# Altium footprint library Capacitors SMD.PcbLib: 74 footprints (part 5 of 5)
Each footprint in its own frame and in the unit in brackets; x right, y up, seen from the top. Pads: shape width x height; smd on the part's side, far side on the other; paste and mask are expansions set on the pad; w line width, h text height; cw(c..) or ccw(c..) is an arc to the next point about the centre after c.
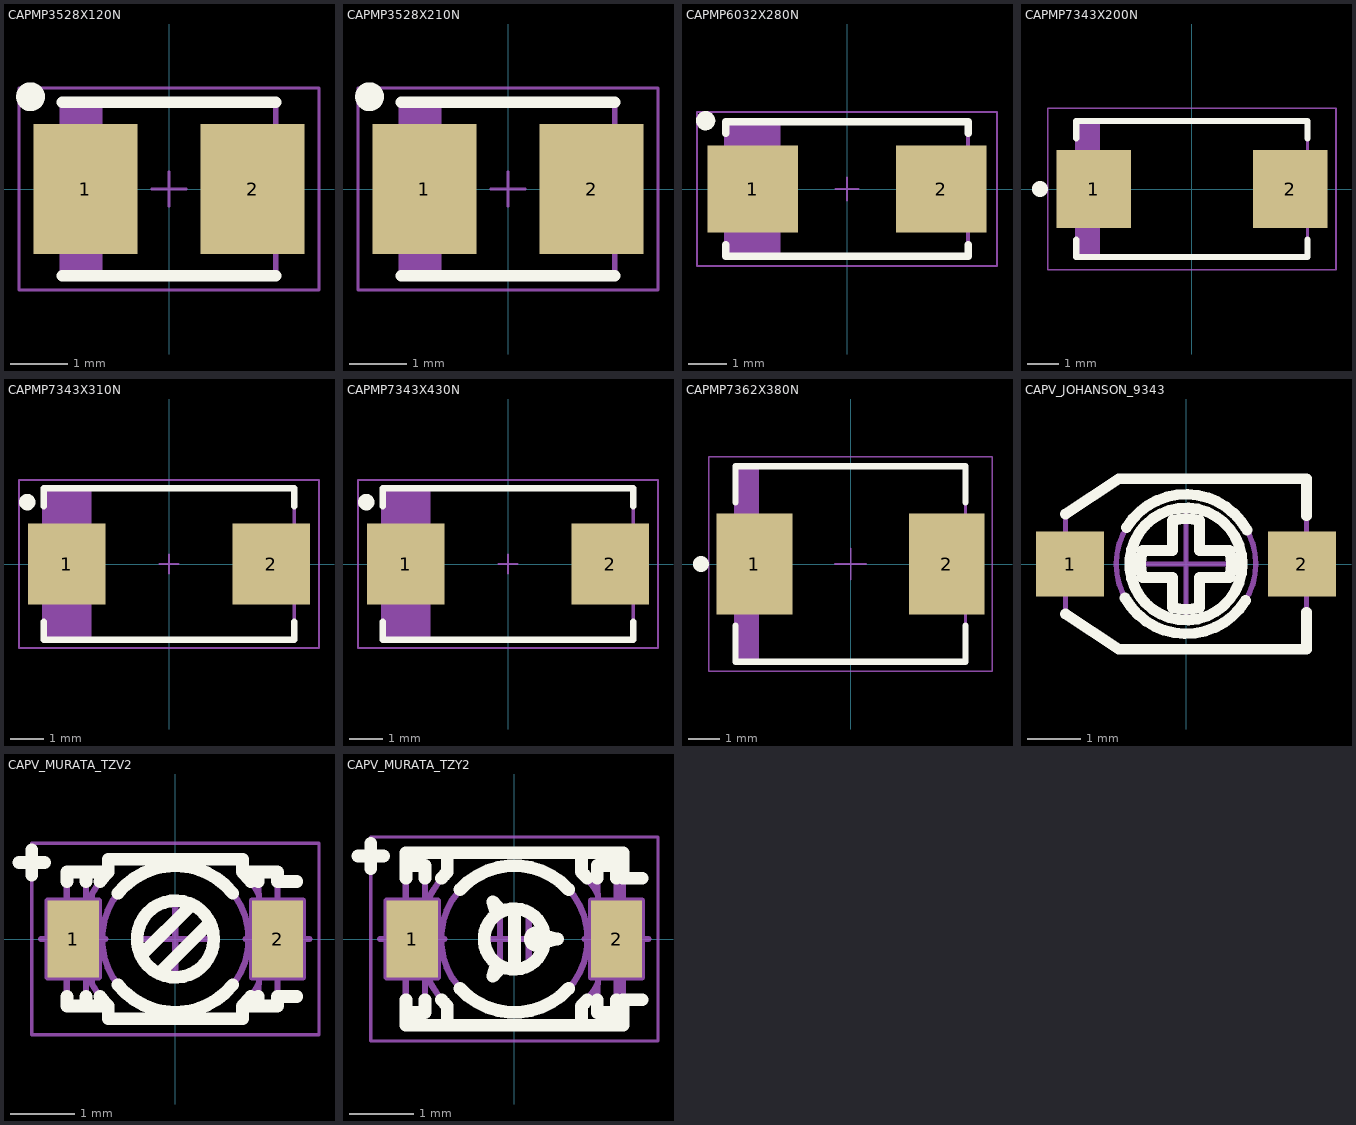
[diagram p4: the footprints below, top view; thin cyan lines are the x and y axes]

## CAPMP3528X120N [mm] "Capacitor, Polarized, Molded  Body 3.5x2.8mm, IPC Medium Density"
height 1.2
pads (2):
  rect 1.8x2.25 smd: 1(-1.45,0) 2(1.45,0)
Top Overlay:
  circle w0.25: c-2.4,1.6 r0.125
  lines w0.2: -1.85,-1.5 1.85,-1.5 ; -1.85,1.5 1.85,1.5
Mechanical 14:
  lines w0.1: -1.8,-1.5 -1.8,1.5 ; -1.725,-1.5 -1.725,1.5 ; -1.65,-1.5 -1.65,1.5 ; -1.575,-1.5 -1.575,1.5 ; -1.5,-1.5 -1.5,1.5 ; -1.425,-1.5 -1.425,1.5 ; -1.35,-1.5 -1.35,1.5 ; -1.275,-1.5 -1.275,1.5 ; -1.2,-1.5 -1.2,1.5 ; -1.85,-1.5 1.85,-1.5 1.85,1.5 -1.85,1.5 -1.85,-1.5
Mechanical 15:
  lines w0.05: -0.3,0 0.3,0 ; 0,-0.3 0,0.3 ; -2.6,-1.75 -2.6,1.75 2.6,1.75 2.6,-1.75 -2.6,-1.75
3D body "CAPMP3528X120N.stp": height 1.2, standoff 0, extent -1.85,-1.5 1.85,1.5

## CAPMP3528X210N [mm] "Capacitor, Polarized, Molded  Body 3.5x2.8mm, IPC Medium Density"
height 2.1
pads (2):
  rect 1.8x2.25 smd: 1(-1.45,0) 2(1.45,0)
Top Overlay:
  circle w0.25: c-2.4,1.6 r0.125
  lines w0.2: -1.85,-1.5 1.85,-1.5 ; -1.85,1.5 1.85,1.5
Mechanical 14:
  lines w0.1: -1.8,-1.5 -1.8,1.5 ; -1.725,-1.5 -1.725,1.5 ; -1.65,-1.5 -1.65,1.5 ; -1.575,-1.5 -1.575,1.5 ; -1.5,-1.5 -1.5,1.5 ; -1.425,-1.5 -1.425,1.5 ; -1.35,-1.5 -1.35,1.5 ; -1.275,-1.5 -1.275,1.5 ; -1.2,-1.5 -1.2,1.5 ; -1.85,-1.5 1.85,-1.5 1.85,1.5 -1.85,1.5 -1.85,-1.5
Mechanical 15:
  lines w0.05: -0.3,0 0.3,0 ; 0,-0.3 0,0.3 ; -2.6,-1.75 -2.6,1.75 2.6,1.75 2.6,-1.75 -2.6,-1.75
3D body "CAPMP3528X210N.stp": height 2.1, standoff 0, extent -1.85,-1.5 1.85,1.5

## CAPMP6032X280N [mm] "Capacitor, Polarized, Molded  Body 6.0x3.2mm, IPC Medium Density"
height 2.8
pads (2):
  rect 2.35x2.25 smd: 1(-2.45,0) 2(2.45,0)
Top Overlay:
  circle w0.25: c-3.675,1.775 r0.125
  lines w0.2: -3.15,-1.45 -3.15,-1.75 3.15,-1.75 3.15,-1.45 ; -3.15,1.45 -3.15,1.75 3.15,1.75 3.15,1.45
Mechanical 14:
  lines w0.1: -3.05,-1.725 -3.05,1.75 ; -2.975,-1.725 -2.975,1.75 ; -2.9,-1.725 -2.9,1.75 ; -2.825,-1.725 -2.825,1.75 ; -2.75,-1.725 -2.75,1.75 ; -2.675,-1.725 -2.675,1.75 ; -2.6,-1.725 -2.6,1.75 ; -2.525,-1.725 -2.525,1.75 ; -2.45,-1.725 -2.45,1.75 ; -2.375,-1.725 -2.375,1.75 ; -2.3,-1.725 -2.3,1.75 ; -2.225,-1.725 -2.225,1.75 ; -2.15,-1.725 -2.15,1.75 ; -2.075,-1.725 -2.075,1.75 ; -2,-1.725 -2,1.75 ; -1.925,-1.725 -1.925,1.75 ; -1.85,-1.725 -1.85,1.75 ; -1.775,-1.725 -1.775,1.75 ; -3.15,-1.725 -3.15,1.75 3.15,1.75 3.15,-1.725 -3.15,-1.725
Mechanical 15:
  lines w0.05: -0.3,0 0.3,0 ; 0,-0.3 0,0.3 ; -3.9,-2 -3.9,2 3.9,2 3.9,-2 -3.9,-2
3D body "CAPMP6032X280N.stp": height 2.8, standoff 0, extent -3.15,-1.75 3.15,1.75

## CAPMP7343X200N [mm] "Capacitor, Polarized, Molded  Body 7.3x4.3mm, IPC Medium Density"
height 2
pads (2):
  rect 2.35x2.45 smd: 1(-3.1,0) 2(3.1,0)
Top Overlay:
  circle w0.25: c-4.8,0 r0.125
  lines w0.2: -3.65,-1.6 -3.65,-2.15 3.65,-2.15 3.65,-1.6 ; -3.65,1.6 -3.65,2.15 3.65,2.15 3.65,1.6
Mechanical 14:
  lines w0.1: -3.55,-2.15 -3.55,2.15 ; -3.45,-2.15 -3.45,2.15 ; -3.35,-2.15 -3.35,2.15 ; -3.25,-2.15 -3.25,2.15 ; -3.15,-2.15 -3.15,2.15 ; -3.05,-2.15 -3.05,2.15 ; -2.95,-2.15 -2.95,2.15 ; -3.65,-2.15 3.65,-2.15 3.65,2.15 -3.65,2.15 ; -3.65,-2.15 -3.65,2.15 ; -3.65,-2.15 -3.65,2.15
Mechanical 15:
  lines w0.05: -4.55,-2.55 4.55,-2.55 4.55,2.55 -4.55,2.55 -4.55,-2.55
3D body "CAPMP7343X200N.stp": height 2, standoff 0, extent -3.8,-2.3 3.8,2.3

## CAPMP7343X310N [mm] "Capacitor, Polarized, Molded  Body 7.3x4.3mm, IPC Medium Density"
height 3.1
pads (2):
  rect 2.35x2.45 smd: 1(-3.1,0) 2(3.1,0)
Top Overlay:
  circle w0.25: c-4.3,1.875 r0.125
  lines w0.2: -3.8,-1.75 -3.8,-2.3 3.8,-2.3 3.8,-1.75 ; -3.8,1.75 -3.8,2.3 3.8,2.3 3.8,1.75
Mechanical 14:
  lines w0.1: -3.75,-2.3 -3.75,2.3 ; -3.675,-2.3 -3.675,2.3 ; -3.6,-2.3 -3.6,2.3 ; -3.525,-2.3 -3.525,2.3 ; -3.45,-2.3 -3.45,2.3 ; -3.375,-2.3 -3.375,2.3 ; -3.3,-2.3 -3.3,2.3 ; -3.225,-2.3 -3.225,2.3 ; -3.15,-2.3 -3.15,2.3 ; -3.075,-2.3 -3.075,2.3 ; -3,-2.3 -3,2.3 ; -2.925,-2.3 -2.925,2.3 ; -2.85,-2.3 -2.85,2.3 ; -2.775,-2.3 -2.775,2.3 ; -2.7,-2.3 -2.7,2.3 ; -2.625,-2.3 -2.625,2.3 ; -2.55,-2.3 -2.55,2.3 ; -2.475,-2.3 -2.475,2.3 ; -2.4,-2.3 -2.4,2.3 ; -3.8,-2.3 -3.8,2.3 3.8,2.3 3.8,-2.3 -3.8,-2.3
Mechanical 15:
  lines w0.05: -0.3,0 0.3,0 ; 0,-0.3 0,0.3 ; -4.55,-2.55 -4.55,2.55 4.55,2.55 4.55,-2.55 -4.55,-2.55
3D body "CAPMP7343X310N.stp": height 3.1, standoff 0, extent -3.8,-2.3 3.8,2.3

## CAPMP7343X430N [mm] "Capacitor, Polarized, Molded  Body 7.3x4.3mm, IPC Medium Density"
height 4.3
pads (2):
  rect 2.35x2.45 smd: 1(-3.1,0) 2(3.1,0)
Top Overlay:
  circle w0.25: c-4.3,1.875 r0.125
  lines w0.2: -3.8,-1.75 -3.8,-2.3 3.8,-2.3 3.8,-1.75 ; -3.8,1.75 -3.8,2.3 3.8,2.3 3.8,1.75
Mechanical 14:
  lines w0.1: -3.7,-2.3 -3.7,2.3 ; -3.625,-2.3 -3.625,2.3 ; -3.55,-2.3 -3.55,2.3 ; -3.475,-2.3 -3.475,2.3 ; -3.4,-2.3 -3.4,2.3 ; -3.325,-2.3 -3.325,2.3 ; -3.25,-2.3 -3.25,2.3 ; -3.175,-2.3 -3.175,2.3 ; -3.1,-2.3 -3.1,2.3 ; -3.025,-2.3 -3.025,2.3 ; -2.95,-2.3 -2.95,2.3 ; -2.875,-2.3 -2.875,2.3 ; -2.8,-2.3 -2.8,2.3 ; -2.725,-2.3 -2.725,2.3 ; -2.65,-2.3 -2.65,2.3 ; -2.575,-2.3 -2.575,2.3 ; -2.5,-2.3 -2.5,2.3 ; -2.4,-2.3 -2.4,2.3 ; -3.8,-2.3 3.8,-2.3 3.8,2.3 -3.8,2.3 -3.8,-2.3
Mechanical 15:
  lines w0.05: -0.3,0 0.3,0 ; 0,-0.3 0,0.3 ; -4.55,-2.55 4.55,-2.55 4.55,2.55 -4.55,2.55 -4.55,-2.55
3D body "CAPMP7343X430N.stp": height 4.3, standoff 0, extent -3.8,-2.3 3.8,2.3

## CAPMP7362X380N [mm] "Molded Capacitor, 2-Leads, Body 7.3x6.2mm, IPC Medium Density"
height 3.8
pads (2):
  rect 2.4x3.2 smd: 1(-3.05,0) 2(3.05,0)
Top Overlay:
  circle w0.25: c-4.75,0 r0.125
  lines w0.2: -3.65,-1.95 -3.65,-3.1 3.65,-3.1 3.65,-1.95 ; -3.65,1.95 -3.65,3.1 3.65,3.1 3.65,1.95
Mechanical 14:
  lines w0.1: -3.55,-3.075 -3.55,3.075 ; -3.45,-3.075 -3.45,3.075 ; -3.35,-3.075 -3.35,3.075 ; -3.25,-3.075 -3.25,3.075 ; -3.15,-3.075 -3.15,3.075 ; -3.05,-3.075 -3.05,3.075 ; -2.95,-3.075 -2.95,3.075 ; -3.65,-3.075 -3.65,3.075 ; -3.65,-3.075 -3.65,3.075 ; -3.65,-3.075 3.65,-3.075 3.65,3.075 -3.65,3.075
Mechanical 15:
  lines w0.05: -0.5,0 0.5,0 ; 0,-0.5 0,0.5 ; -4.5,-3.4 -4.5,3.4 4.5,3.4 4.5,-3.4 -4.5,-3.4
3D body "CAPMP7362X380N.stp": height 3.8, standoff 0, extent -3.75,-3.15 3.75,3.15

## CAPV_JOHANSON_9343 [mil] "JOHANSON 9343 Serie, Single Turn Trimmer Capacitor, Body 4.49x3.175mm"
height 70.08
pads (2):
  rect 50x48 smd: 1(-85,0) 2(85,0)
Top Overlay:
  circle w7.87: c0,0 r41.23
  lines w7.87: -88.39,-36.67 -49.41,-62.5 88.39,-62.5 88.39,-35.43 ; -88.39,36.67 -49.41,62.5 88.39,62.5 88.39,35.43 ; -44.66,-25.01 ccw(c0,0) 43.62,-26.77 ; -43.62,26.77 cw(c0,0) 44.66,25.01 ; -31.87,-9.84 cw(c0,0) -31.87,9.84 -9.84,9.84 -9.84,31.87 cw(c0,0) 9.84,31.87 9.84,9.84 31.87,9.84 cw(c0,0) 31.87,-9.84 9.84,-9.84 9.84,-31.87 cw(c0,0) -9.84,-31.87 -9.84,-9.84 -31.87,-9.84
Mechanical 8:
  lines w3.94: -39.37,0 0,0 ; 0,-39.37 0,0 ; 0,39.37 0,0 ; 39.37,0 0,0
Mechanical 14:
  circle w3.94: c0,0 r51.18
  circle w3.94: c0,0 r41.23
  lines w3.94: -72.64,-15.5 -88.39,-15.5 -88.39,15.5 -72.64,15.5 ; -31.87,-9.84 -9.84,-9.84 -9.84,-31.87 ccw(c0,0) 9.84,-31.87 9.84,-9.84 31.87,-9.84 ; -31.87,9.84 -9.84,9.84 -9.84,31.87 cw(c0,0) 9.84,31.87 9.84,9.84 31.87,9.84 ; 72.64,-15.5 88.39,-15.5 88.39,15.5 72.64,15.5 ; 31.87,-9.84 ccw(c0,0) 31.87,9.84 ; 31.87,-9.84 ccw(c0,0) 31.87,9.84 ; -88.39,-36.67 -49.41,-62.5 88.39,-62.5 88.39,-19.69 72.64,-19.69 72.64,19.69 88.39,19.69 88.39,62.5 -49.41,62.5 -88.39,36.67 -88.39,19.69 -72.64,19.69 -72.64,-19.69 -88.39,-19.69 -88.39,-36.67
3D body "CAPV_JOHANSON_9343.stp": height 70, standoff 0, extent -88.38,-62.5 88.39,62.5

## CAPV_MURATA_TZV2 [mm] "MURATA TZV2 Serie, Ceramic Trimmer Capacitor, Body 2.3 x 3.2mm"
height 1.45
pads (2):
  rect 0.8x1.2 smd: 1(-1.6,0) 2(1.6,0)
Top Overlay:
  circle w0.2: c0,0 r0.6
  lines w0.2: -2.45,1.2 -2.25,1.2 ; -2.25,1 -2.25,1.2 ; -2.25,1.4 -2.25,1.2 ; -2.05,1.2 -2.25,1.2 ; -1.7,-0.9 -1.7,-1.05 -1.05,-1.05 ; -1.7,0.9 -1.7,1.05 -1.05,1.05 ; -1.4,-1.05 -1.4,-0.9 ; -1.4,0.9 -1.4,1.05 ; -1.181,-0.9 ccw(c0,0) -1.05,-1.05 ; -1.181,0.9 cw(c0,0) -1.05,1.05 ; -0.9,-0.716 ccw(c0,0) 0.9,-0.716 ; -0.9,0.716 cw(c0,0) 0.9,0.716 ; -0.541,-0.259 0.259,0.541 ; -0.259,-0.541 0.541,0.259 ; 1.181,-0.9 cw(c0,0) 1.05,-1.05 ; 1.181,0.9 ccw(c0,0) 1.05,1.05 ; 1.3,-1.05 1.3,-0.9 ; 1.3,0.9 1.3,1.05 ; 1.9,-0.9 1.6,-0.9 1.6,-1.05 1.05,-1.05 ; 1.9,0.9 1.6,0.9 1.6,1.05 1.05,1.05 ; -1.05,-1.05 -1.05,-1.25 1.05,-1.25 1.05,-1.05 ; -1.05,1.05 -1.05,1.25 1.05,1.25 1.05,1.05
Mechanical 8:
  lines w0.1: -2.1,0 -1.6,0 ; -1.6,-0.5 -1.6,0 ; -1.6,0.5 -1.6,0 ; -1.1,0 -1.6,0 ; -0.5,0 0,0 ; 0,-0.5 0,0 ; 0,0.5 0,0 ; 0.5,0 0,0 ; 1.1,0 1.6,0 ; 1.6,-0.5 1.6,0 ; 1.6,0.5 1.6,0 ; 2.1,0 1.6,0 ; -2,-0.6 -1.2,-0.6 -1.2,0.6 -2,0.6 -2,-0.6 ; 1.2,-0.6 1.2,0.6 2,0.6 2,-0.6 1.2,-0.6
Mechanical 14:
  circle w0.1: c0,0 r0.6
  circle w0.1: c0,0 r1.15
  lines w0.1: -2.45,1.2 -2.25,1.2 ; -2.25,1 -2.25,1.2 ; -2.25,1.4 -2.25,1.2 ; -2.05,1.2 -2.25,1.2 ; -1.4,-1.05 -1.4,1.05 ; -0.541,-0.259 0.259,0.541 ; -0.259,-0.541 0.541,0.259 ; 1.3,-1.05 1.3,-0.718 ; 1.3,0.718 1.3,1.05 ; 1.6,-0.55 1.6,-1.05 1.05,-1.05 ; 1.6,0.55 1.6,1.05 1.05,1.05 ; -1.05,-1.05 cw(c0,0) -1.31,-0.7 -1.31,0.7 cw(c0,0) -1.05,1.05 ; -1.05,-1.05 -1.7,-1.05 -1.7,1.05 -1.05,1.05 ; -1.05,-1.05 -1.05,-1.25 1.05,-1.25 1.05,-1.05 ; -1.05,1.05 -1.05,1.25 1.05,1.25 1.05,1.05 ; 1.05,-1.05 ccw(c0,0) 1.31,-0.7 1.31,-0.55 1.7,-0.55 1.7,0.55 1.31,0.55 1.31,0.7 ccw(c0,0) 1.05,1.05
Mechanical 15:
  lines w0.05: -2.25,-1.5 -2.25,1.5 2.25,1.5 2.25,-1.5 -2.25,-1.5
3D body "CAPV_MURATA_TZV2.stp": height 1.45, standoff 0, extent -1.7,-1.25 1.7,1.25

## CAPV_MURATA_TZY2 [mm] "MURATA TZY2 Serie, Ceramic Trimmer Capacitor, Body 2.5 x 3.2mm"
height 1.25
pads (2):
  rect 0.8x1.2 smd: 1(-1.6,0) 2(1.6,0)
Top Overlay:
  circle w0.2: c0.35,0 r0.1
  circle w0.2: c0,0 r0.475
  lines w0.2: -2.45,1.3 -2.25,1.3 ; -2.25,1.1 -2.25,1.3 ; -2.25,1.5 -2.25,1.3 ; -2.05,1.3 -2.25,1.3 ; -1.7,-1.15 -1.4,-1.15 -1.4,-0.95 ; -1.7,-0.95 -1.7,-1.35 1.7,-1.35 1.7,-0.95 2,-0.95 ; -1.7,0.95 -1.7,1.35 1.7,1.35 1.7,0.95 2,0.95 ; -1.7,1.15 -1.4,1.15 -1.4,0.95 ; -1.141,-0.95 ccw(c0,0) -1.05,-1.05 -1.05,-1.35 ; -1.141,0.95 cw(c0,0) -1.05,1.05 -1.05,1.35 ; -0.85,-0.775 ccw(c0,0) 0.85,-0.775 ; -0.85,0.775 cw(c0,0) 0.85,0.775 ; -0.279,-0.384 -0.337,-0.585 -0.193,-0.434 ; -0.279,0.384 -0.337,0.585 -0.193,0.434 ; 0,-0.418 0,0.418 ; 0.472,-0.05 0.675,0 0.472,0.05 ; 1.05,-1.35 1.05,-1.05 ccw(c0,0) 1.141,-0.95 ; 1.05,1.15 1.05,1.05 ; 1.05,1.35 1.05,1.05 ; 1.141,0.95 ccw(c0,0) 1.05,1.05 ; 1.3,-0.95 1.3,-1.15 1.6,-1.15 1.6,-0.95 ; 1.3,0.95 1.3,1.15 1.6,1.15 1.6,0.95
Mechanical 8:
  lines w0.1: -2.1,0 -1.6,0 ; -1.6,-0.5 -1.6,0 ; -1.6,0.5 -1.6,0 ; -1.1,0 -1.6,0 ; -0.5,0 0,0 ; 0,-0.5 0,0 ; 0,0.5 0,0 ; 0.5,0 0,0 ; 1.1,0 1.6,0 ; 1.6,-0.5 1.6,0 ; 1.6,0.5 1.6,0 ; 2.1,0 1.6,0 ; -2,-0.6 -1.2,-0.6 -1.2,0.6 -2,0.6 -2,-0.6 ; 1.2,-0.6 2,-0.6 2,0.6 1.2,0.6 1.2,-0.6
Mechanical 14:
  circle w0.1: c0.35,0 r0.1
  circle w0.1: c0,0 r1.15
  circle w0.1: c0,0 r0.475
  lines w0.1: -2.45,1.3 -2.25,1.3 ; -2.25,1.1 -2.25,1.3 ; -2.25,1.5 -2.25,1.3 ; -2.05,1.3 -2.25,1.3 ; -1.7,-1.15 -1.4,-1.15 -1.4,-0.495 ; -1.7,1.15 -1.4,1.15 -1.4,0.495 ; -1.05,-1.35 -1.05,-1.05 cw(c0,0) -1.05,1.05 -1.05,1.35 ; -0.279,-0.384 -0.337,-0.585 -0.193,-0.434 ; -0.279,0.384 -0.337,0.585 -0.193,0.434 ; -0.225,-0.418 -0.225,0.418 ; 0.225,-0.418 0.225,0.418 ; 0.472,-0.05 0.675,0 0.472,0.05 ; 1.05,-1.35 1.05,-1.05 ccw(c0,0) 1.31,-0.7 1.31,-0.55 1.7,-0.55 ; 1.05,1.15 1.05,1.05 ; 1.05,1.35 1.05,1.05 ; 1.3,-0.718 1.3,-1.15 1.6,-1.15 1.6,-0.55 ; 1.3,0.718 1.3,1.15 1.6,1.15 1.6,0.55 ; 1.7,0.55 1.31,0.55 1.31,0.7 ccw(c0,0) 1.05,1.05 ; -1.7,-1.35 -1.7,1.35 1.7,1.35 1.7,-1.35 -1.7,-1.35
Mechanical 15:
  lines w0.05: -2.25,-1.6 -2.25,1.6 2.25,1.6 2.25,-1.6 -2.25,-1.6
3D body "CAPV_MURATA_TZY2.stp": height 1.25, standoff 0, extent -1.7,-1.35 1.7,1.35